# Altium footprint library 4-MICRO-DIP-SMD.PcbLib: 1 footprints
Each footprint in its own frame and in the unit in brackets; x right, y up, seen from the top. Pads: shape width x height; smd on the part's side, far side on the other; paste and mask are expansions set on the pad; w line width, h text height; cw(c..) or ccw(c..) is an arc to the next point about the centre after c.
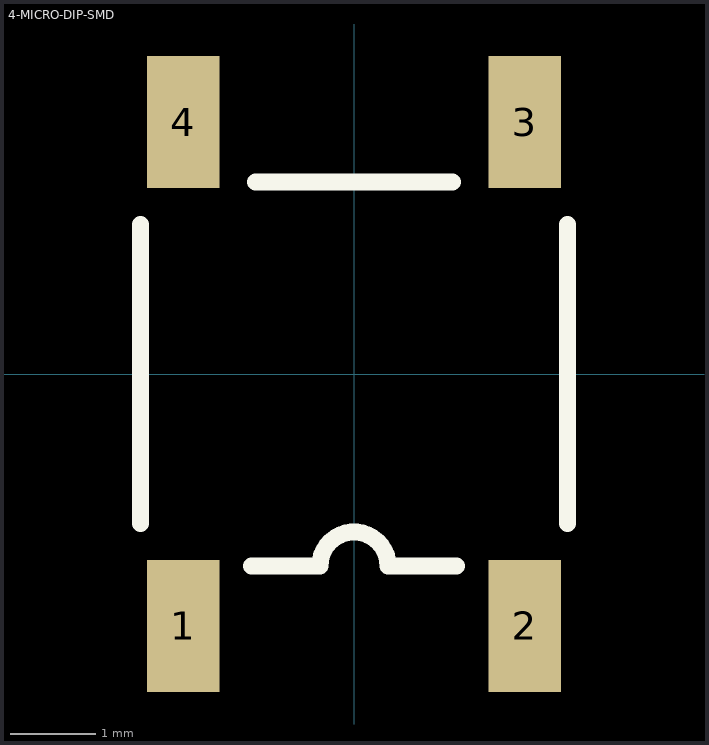
[diagram p0: the footprint, top view; thin cyan lines are the x and y axes]

## 4-MICRO-DIP-SMD [mm]
pads (4):
  rect 0.85x1.55 smd: 1(-2,-2.95) 2(2,-2.95) 3(2,2.95) 4(-2,2.95)
Top Overlay:
  lines w0.2: -2.5,-1.75 -2.5,1.75 ; -1.2,-2.25 -0.4,-2.25 cw(c0,-2.25) 0.4,-2.25 1.2,-2.25 ; -1.15,2.25 1.15,2.25 ; 2.5,-1.75 2.5,1.75
3D body: height 1.3, standoff 0, extent -2.5,-2.25 2.5,2.25